# Altium integrated library LDO-DC_DC.IntLib: 91 symbols (part 2 of 2)
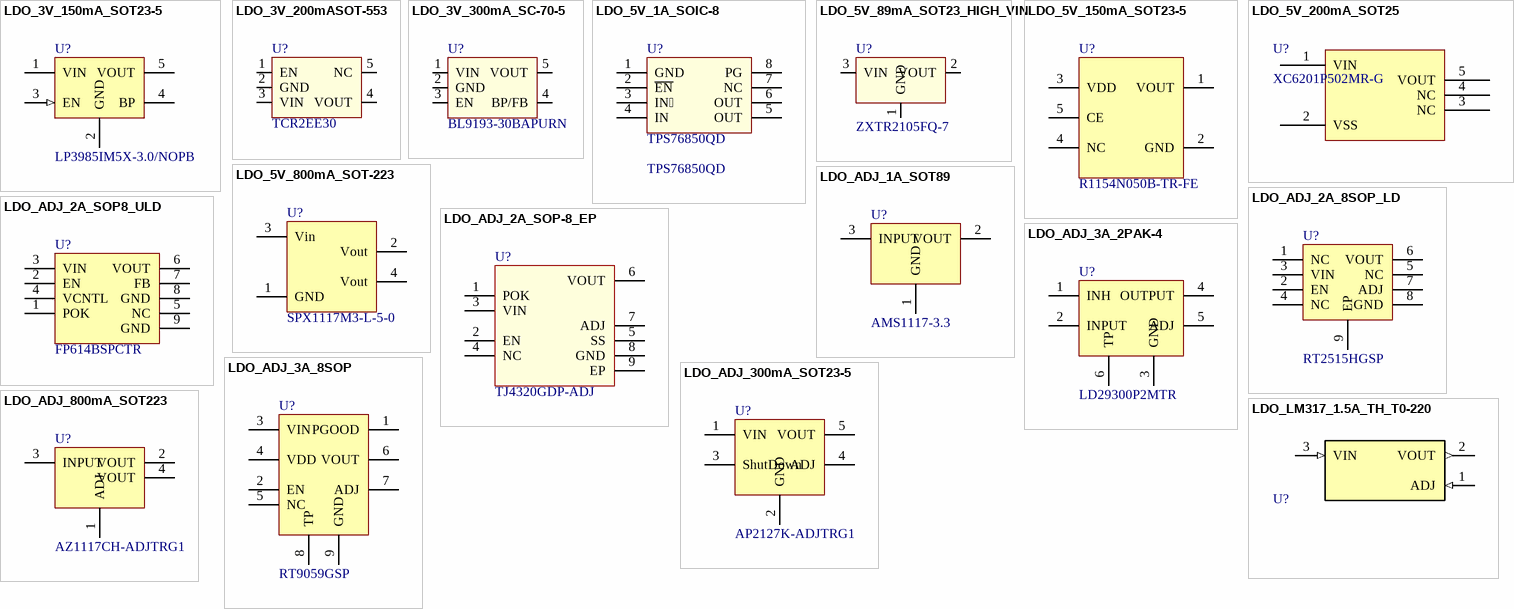
[diagram p3: symbols LDO_3V_150mA_SOT23-5 to LDO_LM317_1.5A_TH_T0-220]

## LDO_3V_150mA_SOT23-5
designator U?, comment LP3985IM5X-3.0/NOPB
IC REG LINEAR 3V 150MA SOT23-5; Manufacturer: Texas Instruments; Manufacturer Part Number: LP3985IM5X-3.0/NOPB; Supplier 1: Digi-Key; Supplier Part Number 1: LP3985IM5X-3.0/NOPBCT-ND; Reel Stock: N/A; Last modified by: J.Jaramillo; Last modified date: 20240310; ComponentLink1Description: Digi-Key; ComponentLink1URL: https://www.digikey.com/product-detail/en/texas-instruments/LP3985IM5X-3.0-NOPB/LP3985IM5X-3.0-NOPBCT-ND/3527411
footprint SOT_23_5 (SC-74A, SOT-753 / 20190221 / H-D.Garcia)
pins: 1 VIN (power) "Supply Input", 2 GND (power) "Ground", 3 EN (in), 4 BP "Optional Bypass capacitor", 5 VOUT (power)

## LDO_3V_200mASOT-553
designator U?, comment TCR2EE30
IC REG LINEAR 3V 200MA ESV; Manufacturer: Toshiba; Manufacturer Part Number: TCR2EE30,LM(CT; Reel Stock: N/A; Supplier 1: Digi-key; Supplier Part Number 1: TCR2EE30LM(CTCT-ND; Last modified by: J.Jaramillo; Last modified date: 20240310; ComponentLink1Description: Datasheet; ComponentLink1URL: https://toshiba.semicon-storage.com/info/docget.jsp?did=13794&prodName=TCR2EF45; ComponentLink2Description: Digi-Key; ComponentLink2URL: https://www.digikey.com/products/en?keywords=TCR2EE30LM(CTCT-ND
footprint SOT_553 (ESV-5 / 20190221 / H-D.Garcia)
pins: 1 EN, 2 GND, 3 VIN, 4 VOUT, 5 NC

## LDO_3V_300mA_SC-70-5
designator U?, comment BL9193-30BAPURN
IC REG LINEAR 3V 300MA SC-70-5; Manufacturer: Shanghai Belling; Reel Stock: N/A; Manufacturer Part Number: BL9193-30BAPURN; Supplier 1: Poshton; Supplier Part Number 1: BL9193-30BAPURN; Last modified by: J.Jaramillo; Last modified date: 20240310; ComponentLink1Description: Datasheet; ComponentLink1URL: KIR08_CMP000907_BL9193_3.2.20210201
footprint SC_70_5 (TSSOP5, SOT-353 / 20190221 / H-D.Garcia)
pins: 1 VIN, 2 GND, 3 EN, 4 BP/FB, 5 VOUT

## LDO_5V_1A_SOIC-8
designator U?, comment TPS76850QD
IC REG LINEAR 5V 1A 8SOIC; Manufacturer: Texas Instruments; Supplier 1: Digi-key; Supplier Part Number 1: 296-2751-5-ND; Reel Stock: N/A; Last modified by: J.Jaramillo; Last modified date: 20240310; ComponentLink1Description: Digi-key; ComponentLink1URL: https://www.digikey.com/en/products/detail/texas-instruments/TPS76850QD/306624; Manufacturer Part Number: TPS76850QD
footprint SOIC_8_3.9mm (/20210511/C-A.Serna.A)
pins: 1 GND, 2 ~{EN}, 3 IN, 4 IN, 5 OUT, 6 OUT, 7 NC, 8 PG

## LDO_5V_89mA_SOT23_HIGH_VIN
designator U?, comment ZXTR2105FQ-7
IC REG LINEAR 5V 89MA SOT23; Manufacturer: Diodes Incorporated; Last modified by: J.Jaramillo; Last modified date: 20240310; ComponentLink1Description: Digi-Key; ComponentLink1URL: https://www.digikey.com/en/products/detail/diodes-incorporated/ZXTR2105FQ-7/6187554; Reel Stock: N/A; Manufacturer Part Number: ZXTR2105FQ-7; Supplier 1: Digi-Key; Supplier Part Number 1: ZXTR2105FQ-7DICT-ND
footprint SOT-23-3_L (TO-236-3, SC-59, SOT-23-3/20190611/N-A.Potosi)
pins: 1 GND, 2 VOUT, 3 VIN

## LDO_5V_150mA_SOT23-5
designator U?, comment R1154N050B-TR-FE
IC REG LINEAR 5V 150MA SOT23-5; Manufacturer: Nisshinbo Micro Devices Inc.; Manufacturer Part Number: R1154N050B-TR-FE; Supplier 1: Digi-Key; Supplier Part Number 1: 2129-R1154N050B-TR-FECT-ND; Reel Stock: N/A; Last modified by: J.Jaramillo; Last modified date: 20240310; ComponentLink1Description: Digi-Key; ComponentLink1URL: https://www.digikey.com/en/products/detail/nisshinbo-micro-devices-inc/R1154N050B-TR-FE/10211782
footprint SOT_23_5 (SC-74A, SOT-753 / 20190221 / H-D.Garcia)
pins: 1 VOUT, 2 GND, 3 VDD, 4 NC, 5 CE

## LDO_5V_200mA_SOT25
designator U?, comment XC6201P502MR-G
IC REG LINEAR 5V 200MA SOT25; Manufacturer: Torex Semiconductor Ltd; Manufacturer Part Number: XC6201P502MR-G; Supplier 1: Digi-Key; Supplier Part Number 1: 893-1055-1-ND; Reel Stock: N/A; Last modified by: J.Jaramillo; Last modified date: 20240310; ComponentLink1Description: Digi-Key; ComponentLink1URL: https://www.digikey.com/en/products/detail/torex-semiconductor-ltd/XC6201P502MR-G/2138099?s=N4IgTCBcDaIBwE4DMBaAjABgKxfSgcgCIgC6AvkA
footprint SOT_23_5 (SC-74A, SOT-753 / 20190221 / H-D.Garcia)
pins: 1 VIN (power), 2 VSS, 3 NC, 4 NC, 5 VOUT (power)

## LDO_5V_800mA_SOT-223
designator U?, comment SPX1117M3-L-5-0
IC REG LINEAR 5V 800MA SOT223; Manufacturer: MaxLinear, Inc.; Manufacturer Part Number: SPX1117M3-L-5-0/TR; Supplier 1: Digi-Key; Supplier Part Number 1: 1016-1849-1-ND; Reel Stock: N/A; Last modified by: J.Jaramillo; Last modified date: 20240310; ComponentLink1Description: Digi-Key; ComponentLink1URL: https://www.digikey.com/products/en?keywords=1016-1849-1-ND
footprint SOT_223 (TO-261-4, TO-261AA / 20190829 / M-X.Arias)
pins: 1 GND, 2 Vout, 3 Vin, 4 Vout

## LDO_ADJ_1A_SOT89
designator U?, comment AMS1117-3.3
Fixed 18V 3.3V 1.3V @ 1A SOT-89 Dropout Regulators(LDO) RoHS; Manufacturer: UMW(Youtai Semiconductor Co., Ltd.); Manufacturer Part Number: AMS1117-3.3; Supplier 1: LCSC; Supplier Part Number 1: C347256; Reel Stock: N/A; Last modified by: J.Jaramillo; Last modified date: 20240310; ComponentLink1Description: LCSC; ComponentLink1URL: https://lcsc.com/product-detail/Dropout-Regulators-LDO_UMW-Youtai-Semiconductor-Co-Ltd-AMS1117-3-3_C347256.html
footprint SOT_89 (/20210416/V-A.Patino)
pins: 1 GND (power) "Ground", 2 VOUT (power) "Output Voltage. When disable the MIC5504 switches in an internal 25 ohm load to discharge the external capacitors.", 3 INPUT (power) "Supply Input"

## LDO_ADJ_2A_8SOP_LD
designator U?, comment RT2515HGSP
2A 400mV@(2A) Adjustable 0.9V~5.5V Positive 1 6V SOP-8EP_150mil Linear Voltage Regulators (LDO) ROHS; Manufacturer: Richtek Tech; Manufacturer Part Number: RT2515HGSP; Supplier 1: LCSC; Supplier Part Number 1: C242642; Reel Stock: N/A; Last modified by: J.Jaramillo; Last modified date: 20240310; ComponentLink1Description: Digi-Key; ComponentLink1URL: https://lcsc.com/product-detail/Linear-Voltage-Regulators-span-style-background-color-ff0-LDO-span_Richtek-Tech-RT2515HGSP_C242642.html
footprint SOIC_8_3.9mm_EP (SOP-8-EP / 20210511 / C-A.Serna.A)
pins: 1 NC, 2 EN, 3 VIN, 4 NC, 5 NC, 6 VOUT, 7 ADJ, 8 GND, 9 EP

## LDO_ADJ_2A_SOP8_ULD
designator U?, comment FP614BSPCTR
2A 65dB@(120Hz) 240mV@(2A) Adjustable 0.8V~5.5V; Manufacturer: Fitipower Integrated Tech; Manufacturer Part Number: FP614BSPCTR; Supplier 1: LCSC; Supplier Part Number 1: C172762; Reel Stock: N/A; Last modified by: J.Jaramillo; Last modified date: 20240310
footprint SOIC_8_3.9mm_EP (SOP-8-EP / 20210511 / C-A.Serna.A)
pins: 1 POK, 2 EN, 3 VIN, 4 VCNTL, 5 NC, 6 VOUT, 7 FB, 8 GND, 9 GND

## LDO_ADJ_2A_SOP-8_EP
designator U?, comment TJ4320GDP-ADJ
2A 60dB@(1kHz) 600mV@(2A) Adjustable 0.6V~4.5V Positive 1 5.5V SOP-8EP_150mil Linear Voltage Regulators (LDO) ROHS; Manufacturer: HTC Korea TAEJIN Tech; Manufacturer Part Number: TJ4320GDP-ADJ; Supplier 1: LCSC; Supplier Part Number 1: C126089; Reel Stock: N/A; Last modified by: J.Jaramillo; Last modified date: 20240310; ComponentLink1Description: LCSC; ComponentLink1URL: https://lcsc.com/product-detail/Linear-Voltage-Regulators-LDO_HTC-Korea-TAEJIN-Tech-TJ4320GDP-ADJ_C126089.html
footprint SOIC_8_3.9mm_EP (SOP-8-EP / 20210511 / C-A.Serna.A)
pins: 1 POK (power), 2 EN, 3 VIN, 4 NC, 5 SS, 6 VOUT, 7 ADJ, 8 GND (power), 9 EP (power)

## LDO_ADJ_3A_2PAK-4
designator U?, comment LD29300P2MTR
IC REG LINEAR POS ADJ 3A P2PAK-4; Manufacturer: STMicroelectronics; Manufacturer Part Number: LD29300P2MTR; Supplier 1: Digi-Key; Supplier Part Number 1: 497-7780-1-ND; Reel Stock: N/A; Last modified by: J.Jaramillo; Last modified date: 20240310; ComponentLink1Description: Digi-Key; ComponentLink1URL: https://www.digikey.com/product-detail/en/stmicroelectronics/LD29300P2MTR/497-7780-2-ND/1038395
footprint TO-263-5 (P2PAK-4, D2Pak, TO-263BA / 20190617/ M-X.Arias)
pins: 1 INH, 2 INPUT, 3 GND, 4 OUTPUT, 5 ADJ, 6 TP

## LDO_ADJ_3A_8SOP
designator U?, comment RT9059GSP
IC REG LINEAR 3A 8SOP; Manufacturer: Richtek USA Inc.; Manufacturer Part Number: RT9059GSP; Supplier 1: Digi-Key; Supplier Part Number 1: RT9059GSPCT-ND; Reel Stock: N/A; Last modified by: J.Jaramillo; Last modified date: 20240310; ComponentLink1Description: Digi-Key; ComponentLink1URL: https://www.digikey.com/product-detail/en/richtek-usa-inc/RT9059GSP/RT9059GSPCT-ND/6676804
footprint SOIC_8_3.9mm_EP (SOP-8-EP / 20210511 / C-A.Serna.A)
pins: 1 PGOOD, 2 EN, 3 VIN, 4 VDD, 5 NC, 6 VOUT, 7 ADJ, 8 TP, 9 GND

## LDO_ADJ_300mA_SOT23-5
designator U?, comment AP2127K-ADJTRG1
IC REG LIN POS ADJ 300MA SOT23-5; Manufacturer: Diodes Incorporated; Manufacturer Part Number: AP2127K-ADJTRG1; Supplier 1: Digi-Key; Supplier Part Number 1: AP2127K-ADJTRG1DICT-ND; Reel Stock: N/A; Last modified by: J.Jaramillo; Last modified date: 20240310; ComponentLink1Description: Digi-Key; ComponentLink1URL: https://www.digikey.com/product-detail/en/diodes-incorporated/AP2127K-ADJTRG1/AP2127K-ADJTRG1DICT-ND/4505277
footprint SOT_23_5 (SC-74A, SOT-753 / 20190221 / H-D.Garcia)
pins: 1 VIN, 2 GND, 3 ShutDown, 4 ADJ, 5 VOUT

## LDO_ADJ_800mA_SOT223
designator U?, comment AZ1117CH-ADJTRG1
IC REG LIN POS ADJ 800MA SOT223; Manufacturer: Diodes Incorporated; Manufacturer Part Number: AZ1117CH-ADJTRG1; Supplier 1: Digi-Key; Supplier Part Number 1: AZ1117CH-ADJTRG1DICT-ND; Reel Stock: N/A; Last modified by: J.Jaramillo; Last modified date: 20240310; ComponentLink1Description: Digi-Key; ComponentLink1URL: https://www.digikey.com/en/products/detail/diodes-incorporated/AZ1117CH-ADJTRG1/4470987?s=N4IgTCBcDaIIIC0CMKDsBhAEgWjgEQCkAVAJQHEkQBdAXyA
footprint SOT_223 (TO-261-4, TO-261AA / 20190829 / M-X.Arias)
pins: 1 ADJ (power) "Ground", 2 VOUT (power) "Output Voltage. When disable the MIC5504 switches in an internal 25 ohm load to discharge the external capacitors.", 3 INPUT (power) "Supply Input", 4 VOUT (power) "Output Voltage. When disable the MIC5504 switches in an internal 25 ohm load to discharge the external capacitors."

## LDO_LM317_1.5A_TH_T0-220
designator U?
IC REG LINEAR POS ADJ 1.5A TO220; Manufacturer: STMicroelectronics; Manufacturer Part Number: LM317T; Supplier 1: Digi-Key; Supplier Part Number 1: 497-1575-5-ND; Reel Stock: N/A; Last modified by: J.Jaramillo; Last modified date: 20240310; ComponentLink1Description: Digi-Key; ComponentLink1URL: https://www.digikey.com/en/products/detail/stmicroelectronics/LM317T/591677; ComponentLink2Description: Datahseet; ComponentLink2URL: chrome-extension://efaidnbmnnnibpcajpcglclefindmkaj/https://www.st.com/content/ccc/resource/technical/document/datasheet/group1/a0/db/e6/9b/6f/9c/45/7b/CD00000455/files/CD00000455.pdf/jcr:content/translations/en.CD00000455.pdf
footprint T0-220-LM317T (/ 20231112 / J.Jaramillo)
pins: 1 ADJ (in), 2 VOUT (out), 3 VIN (in)